# Altium schematic symbol library Panasonic.SchLib: 22 symbols
Pins are listed as number, name and electrical type; pins without a type are passive.

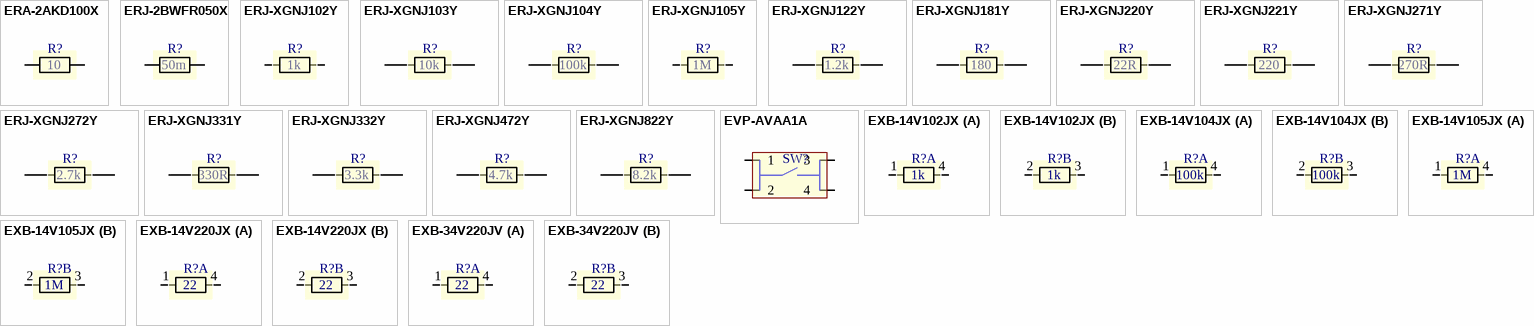
[diagram p0: symbols ERA-2AKD100X to EXB-34V220JV]

## ERA-2AKD100X
designator R?, comment value 10  (hidden comment: 10 Ohms ±0.5% 0.063W, 1/16W Chip Resistor 0402 (1005 Metric) Automotive AEC-Q200 Thin Film)
RES SMD 10 OHM 0.5% 1/16W 0402; MPN: ERJ-2BWFR050X; Supplier 1: Digi-Key; Supplier Part Number 1: P10DDCT-ND
footprint RESC0402X01N (Chip Resistor, 2-Leads, Body 0.40x0.20mm, IPC Medium Density)
pins: 1, 2

## ERJ-2BWFR050X
designator R?, comment value 50m  (hidden comment: 50 mOhms ±1% 0.25W, 1/4W Chip Resistor 0402 (1005 Metric) Automotive AEC-Q200, Current Sense Thick Film)
RES SMD 0.05 OHM 1% 1/4W 0402; MPN: ERJ-2BWFR050X; Supplier 1: Digi-Key; Supplier Part Number 1: P17367CT-ND
footprint RESC0402X01N (Chip Resistor, 2-Leads, Body 0.40x0.20mm, IPC Medium Density)
pins: 1, 2

## ERJ-XGNJ102Y
designator R?, comment value 1k  (hidden comment: 1 kOhms ±5% 0.03W, 1/32W Chip Resistor 01005 (0402 Metric)  Thick Film)
RES SMD 1K OHM 5% 1/32W 01005; MPN: ERJ-XGNJ102Y; Supplier 1: Digi-Key; Supplier Part Number 1: P1.0KAWCT-ND
footprint RESC0402X01N (Chip Resistor, 2-Leads, Body 0.40x0.20mm, IPC Medium Density)
pins: 1, 2

## ERJ-XGNJ103Y
designator R?, comment value 10k  (hidden comment: 10 kOhms ±5% 0.03W, 1/32W Chip Resistor 01005 (0402 Metric)  Thick Film)
RES SMD 10K OHM 5% 1/32W 01005; MPN: ERJ-XGNJ103Y; Supplier 1: Digi-Key; Supplier Part Number 1: P10KAWCT-ND
footprint RESC0402X01N (Chip Resistor, 2-Leads, Body 0.40x0.20mm, IPC Medium Density)
pins: 1, 2

## ERJ-XGNJ104Y
designator R?, comment value 100k  (hidden comment: 100 kOhms ±5% 0.03W, 1/32W Chip Resistor 01005 (0402 Metric)  Thick Film)
RES SMD 100K OHM 5% 1/32W 01005; MPN: ERJ-XGNJ104Y; Supplier 1: Digi-Key; Supplier Part Number 1: P100KAWCT-ND
footprint RESC0402X01N (Chip Resistor, 2-Leads, Body 0.40x0.20mm, IPC Medium Density)
pins: 1, 2

## ERJ-XGNJ105Y
designator R?, comment value 1M  (hidden comment: 1 MOhms ±5% 0.03W, 1/32W Chip Resistor 01005 (0402 Metric)  Thick Film)
RES SMD 1M OHM 5% 1/32W 01005; MPN: ERJ-XGNJ105Y; Supplier 1: Digi-Key; Supplier Part Number 1: P1.0MAWCT-ND
footprint RESC0402X01N (Chip Resistor, 2-Leads, Body 0.40x0.20mm, IPC Medium Density)
pins: 1, 2

## ERJ-XGNJ122Y
designator R?, comment value 1.2k  (hidden comment: 1.2 kOhms ±5% 0.03W, 1/32W Chip Resistor 01005 (0402 Metric)  Thick Film)
RES SMD 1.2K OHM 5% 1/32W 01005; MPN: ERJ-XGNJ122Y; Supplier 1: Digi-Key; Supplier Part Number 1: P1.2KAWCT-ND
footprint RESC0402X01N (Chip Resistor, 2-Leads, Body 0.40x0.20mm, IPC Medium Density)
pins: 1, 2

## ERJ-XGNJ181Y
designator R?, comment value 180  (hidden comment: 180 Ohms ±5% 0.03W, 1/32W Chip Resistor 01005 (0402 Metric)  Thick Film)
RES SMD 180 OHM 5% 1/32W 01005; MPN: ERJ-XGNJ181Y; Supplier 1: Digi-Key; Supplier Part Number 1: P180AWCT-ND
footprint RESC0402X01N (Chip Resistor, 2-Leads, Body 0.40x0.20mm, IPC Medium Density)
pins: 1, 2

## ERJ-XGNJ220Y
designator R?, comment value 22R  (hidden comment: 22 Ohms ±5% 0.03W, 1/32W Chip Resistor 01005 (0402 Metric)  Thick Film)
RES SMD 22 OHM 5% 1/32W 01005; MPN: ERJ-XGNJ220Y; Supplier 1: Digi-Key; Supplier Part Number 1: 311-22DHCT-ND
footprint RESC0402X01N (Chip Resistor, 2-Leads, Body 0.40x0.20mm, IPC Medium Density)
pins: 1, 2

## ERJ-XGNJ221Y
designator R?, comment value 220  (hidden comment: 220 Ohms ±5% 0.03W, 1/32W Chip Resistor 01005 (0402 Metric)  Thick Film)
RES SMD 220 OHM 5% 1/32W 01005; MPN: ERJ-XGNJ221Y; Supplier 1: Digi-Key; Supplier Part Number 1: P220AWCT-ND
footprint RESC0402X01N (Chip Resistor, 2-Leads, Body 0.40x0.20mm, IPC Medium Density)
pins: 1, 2

## ERJ-XGNJ271Y
designator R?, comment value 270R  (hidden comment: 270 Ohms ±5% 0.03W, 1/32W Chip Resistor 01005 (0402 Metric)  Thick Film)
RES SMD 270 OHM 5% 1/32W 01005; MPN: ERJ-XGNJ271Y; Supplier 1: Digi-Key; Supplier Part Number 1: P270AWCT-ND
footprint RESC0402X01N (Chip Resistor, 2-Leads, Body 0.40x0.20mm, IPC Medium Density)
pins: 1, 2

## ERJ-XGNJ272Y
designator R?, comment value 2.7k  (hidden comment: 2.7 kOhms ±5% 0.03W, 1/32W Chip Resistor 01005 (0402 Metric)  Thick Film)
RES SMD 2.7K OHM 5% 1/32W 01005; MPN: ERJ-XGNJ272Y; Supplier 1: Digi-Key; Supplier Part Number 1: P2.7KAWCT-ND
footprint RESC0402X01N (Chip Resistor, 2-Leads, Body 0.40x0.20mm, IPC Medium Density)
pins: 1, 2

## ERJ-XGNJ331Y
designator R?, comment value 330R  (hidden comment: 330 Ohms ±5% 0.03W, 1/32W Chip Resistor 01005 (0402 Metric) Thick Film)
RES SMD 330 OHM 5% 1/32W 01005; MPN: ERJ-XGNJ331Y; Supplier 1: Digi-Key; Supplier Part Number 1: P330AWCT-ND
footprint RESC0402X01N (Chip Resistor, 2-Leads, Body 0.40x0.20mm, IPC Medium Density)
pins: 1, 2

## ERJ-XGNJ332Y
designator R?, comment value 3.3k  (hidden comment: 3.3 kOhms ±5% 0.03W, 1/32W Chip Resistor 01005 (0402 Metric)  Thick Film)
RES SMD 3.3K OHM 5% 1/32W 01005; MPN: ERJ-XGNJ332Y; Supplier 1: Digi-Key; Supplier Part Number 1: P3.3KAWCT-ND
footprint RESC0402X01N (Chip Resistor, 2-Leads, Body 0.40x0.20mm, IPC Medium Density)
pins: 1, 2

## ERJ-XGNJ472Y
designator R?, comment value 4.7k  (hidden comment: 4.7 kOhms ±5% 0.03W, 1/32W Chip Resistor 01005 (0402 Metric)  Thick Film)
RES SMD 4.7K OHM 5% 1/32W 01005; MPN: ERJ-XGNJ472Y; Supplier 1: Digi-Key; Supplier Part Number 1: P4.7KAWCT-ND
footprint RESC0402X01N (Chip Resistor, 2-Leads, Body 0.40x0.20mm, IPC Medium Density)
pins: 1, 2

## ERJ-XGNJ822Y
designator R?, comment value 8.2k  (hidden comment: 8.2 kOhms ±5% 0.03W, 1/32W Chip Resistor 01005 (0402 Metric)  Thick Film)
RES SMD 8.2K OHM 5% 1/32W 01005; MPN: ERJ-XGNJ822Y; Supplier 1: Digi-Key; Supplier Part Number 1: P8.2KAWCT-ND
footprint RESC0402X01N (Chip Resistor, 2-Leads, Body 0.40x0.20mm, IPC Medium Density)
pins: 1, 2

## EVP-AVAA1A
designator SW?, comment Tactile Switch SPST-NO Side Actuated Edge Mount, Right Angle  (value not drawn)
SWITCH TACTILE SPST-NO 0.02A 15V; MPN: EVP-AVAA1A; Supplier 1: Digi-Key; Supplier Part Number 1: P16849CT-ND
footprint EVPAV (SWITCH TACTILE SPST-NO 0.02A 15V)
pins: 1, 2, 3, 4

## EXB-14V102JX
designator R?, comment value 1k  (hidden comment: 1k Ohm ±5% 31mW Power Per Element Isolated Resistor Network/Array ±200ppm/°C 0302 (0805 Metric), Convex, Long Side Terminals)
RES ARRAY 2 RES 1K OHM 0302; MPN: EXB-14V102JX; Supplier 1: Digi-Key
footprint CAC-50P80X60-4M (Chip Array, ConvexS, 4-Leads, Pitch 0.50mm,  Body 0.80x0.60mm,  IPC Low Density)
part A pins: 1, 4
part B pins: 2, 3

## EXB-14V104JX
designator R?, comment 100k Ohm ±5% 31mW Power Per Element Isolated  Resistor Network/Array ±200ppm/°C 0302 (0805 Metric), Convex, Long Side Terminals  (value not drawn)
RES ARRAY 2 RES 100K OHM 0302; MPN: EXB-14V104JX; Value: 100k; Supplier 1: Digi-Key; Supplier Part Number 1: Y3104CT-ND
footprint CAC-50P80X60-4M (Chip Array, ConvexS, 4-Leads, Pitch 0.50mm,  Body 0.80x0.60mm,  IPC Low Density)
part A pins: 1, 4
part B pins: 2, 3

## EXB-14V105JX
designator R?, comment 1M Ohm ±5% 31mW Power Per Element Isolated  Resistor Network/Array ±200ppm/°C 0302 (0805 Metric), Convex, Long Side Terminals  (value not drawn)
RES ARRAY 2 RES 1M OHM 0302; MPN: EXB-14V105JX; Value: 1M; Supplier 1: Digi-Key; Supplier Part Number 1: Y3105CT-ND
footprint CAC-50P80X60-4M (Chip Array, ConvexS, 4-Leads, Pitch 0.50mm,  Body 0.80x0.60mm,  IPC Low Density)
part A pins: 1, 4
part B pins: 2, 3

## EXB-14V220JX
designator R?, comment 22 Ohm ±5% 31mW Power Per Element Isolated Resistor Network/Array ±200ppm/°C 0302 (0805 Metric), Convex, Long Side Terminals  (value not drawn)
RES ARRAY 2 RES 22 OHM 0302; MPN: EXB-14V220JX; Value: 22; Supplier 1: Digi-Key; Supplier Part Number 1: Y3220CT-ND
footprint CAC-50P80X60-4M (Chip Array, ConvexS, 4-Leads, Pitch 0.50mm,  Body 0.80x0.60mm,  IPC Low Density)
part A pins: 1, 4
part B pins: 2, 3

## EXB-34V220JV
designator R?, comment 22 Ohm ±5% 62.5mW Power Per Element Isolated Resistor Network/Array ±200ppm/°C 0606, Convex  (value not drawn)
RES ARRAY 2 RES 22 OHM 0606; MPN: EXB-34V220JV; Value: 22; Supplier 1: Digi-Key; Supplier Part Number 1: Y8220CT-ND
footprint CAC-80P160X160-4M (Chip Array, ConvexS, 4-Leads, Pitch 0.80mm,  Body 1.60x1.60mm,  IPC Low Density)
part A pins: 1, 4
part B pins: 2, 3